# Altium schematic symbol library AT28C64B-15PU.SchLib: 1 symbol
Pins are listed as number, name and electrical type; pins without a type are passive.

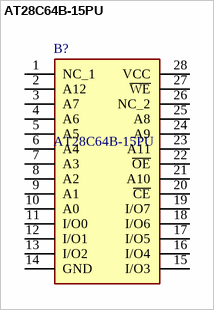
[diagram p0: symbol AT28C64B-15PU]

## AT28C64B-15PU
designator B?
AT28C64B-15PU, Parallel EEPROM Memory 64kbit, Parallel, 150ns 4.5  5.5 V, 28-Pin PDIP; Manufacturer_Name: Microchip; Geometry.Height: 4.826mm; Mouser Part Number: 556-AT28C64B15PU; Mouser Price/Stock: https://www.mouser.co.uk/ProductDetail/Microchip-Technology/AT28C64B-15PU?qs=2VKgqYuc3OvipbcAuBcLow%3D%3D; Manufacturer_Part_Number: AT28C64B-15PU; Datasheet Link: http://www.atmel.com/images/doc0270.pdf
footprint DIP1556W56P254L3702H483Q28N
pins: 1 NC_1, 2 A12, 3 A7, 4 A6, 5 A5, 6 A4, 7 A3, 8 A2, 9 A1, 10 A0, 11 I/O0, 12 I/O1, 13 I/O2, 14 GND, 15 I/O3, 16 I/O4, 17 I/O5, 18 I/O6, 19 I/O7, 20 ~{CE}, 21 A10, 22 ~{OE}, 23 A11, 24 A9, 25 A8, 26 NC_2, 27 ~{WE}, 28 VCC